# Altium integrated library BarkockLib.IntLib: 3 symbols
Pins are listed as number, name and electrical type; pins without a type are passive.

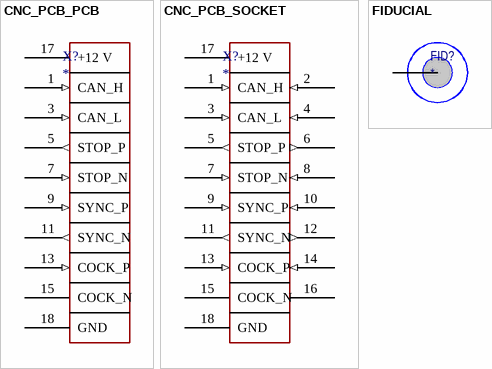
[diagram p0: symbols CNC_PCB_PCB to FIDUCIAL]

## CNC_PCB_PCB
designator X?
footprint CNC_PCB_PCB; pin to pad 1>1+2 3>3+4 5>5+6 7>7+8 9>9+10 11>11+12 13>13+14 15>15+16
pins: 1 CAN_H (in), 3 CAN_L (in), 5 STOP_P (out), 7 STOP_N (in), 9 SYNC_P (in), 11 SYNC_N (out), 13 COCK_P (in), 15 COCK_N (power), 17 +12 V (power), 18 GND (power)

## CNC_PCB_SOCKET
designator X?
footprint CNC_PCB_SOCKET
pins: 1 CAN_H (in), 2 CAN_H (in), 3 CAN_L (in), 4 CAN_L (in), 5 STOP_P (out), 6 STOP_P (out), 7 STOP_N (in), 8 STOP_N (in), 9 SYNC_P (in), 10 SYNC_P (in), 11 SYNC_N (out), 12 SYNC_N (out), 13 COCK_P (in), 14 COCK_P (in), 15 COCK_N (power), 16 COCK_N (power), 17 +12 V (power), 18 GND (power)

## FIDUCIAL
designator FID?
Реперная метка
footprint FIDUCIAL
pins: 1